# Altium schematic symbol library SCH - POWER - SWITCHMODE - 3PEAK TPP36108.SchLib: 1 symbol
Pins are listed as number, name and electrical type; pins without a type are passive.

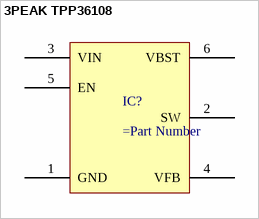
[diagram p0: symbol 3PEAK TPP36108]

## 3PEAK TPP36108
designator IC?
pins: 1 GND, 2 SW, 3 VIN, 4 VFB, 5 EN, 6 VBST